# Altium schematic symbol library Schlib1.SchLib: 1 symbol
Pins are listed as number, name and electrical type; pins without a type are passive.

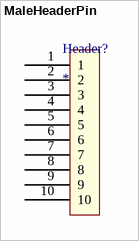
[diagram p0: symbol MaleHeaderPin]

## MaleHeaderPin
designator Header?
footprint Headerx10
pins: 1, 2, 3, 4, 5, 6, 7, 8, 9, 10